# Altium footprint library MOLEX_430450400.PcbLib: 1 footprints
Each footprint in its own frame and in the unit in brackets; x right, y up, seen from the top. Pads: shape width x height; smd on the part's side, far side on the other; paste and mask are expansions set on the pad; w line width, h text height; cw(c..) or ccw(c..) is an arc to the next point about the centre after c.
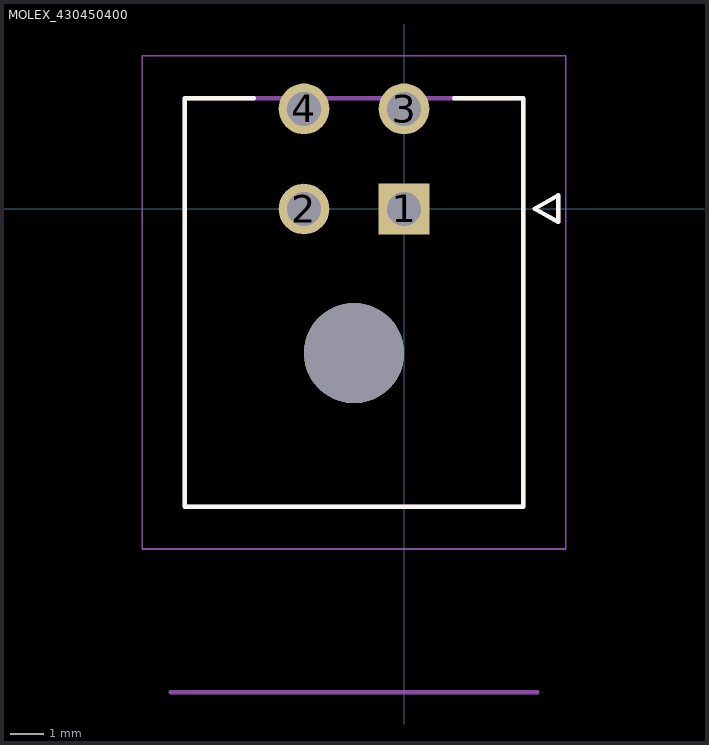
[diagram p0: the footprint, top view; thin cyan lines are the x and y axes]

## MOLEX_430450400 [mm]
height 8.77
pads (5):
  rect 1.52x1.52 / inner round 1.52 / far side rect 1.52x1.52 hole 1.02 mask+0.076: 1(0,0)
  round 1.52 hole 1.02 mask+0.076: 2(-3,0) 3(0,3) 4(-3,3)
  round 3 hole 3 unplated mask+0.076: ""(-1.5,-4.32)
Top Overlay:
  lines w0.127: -4.5,3.32 -6.575,3.32 -6.575,-8.92 3.575,-8.92 3.575,3.32 1.5,3.32 ; 3.92,0.01 4.62,0.41 4.62,-0.39 3.92,0.01
Mechanical 13:
  lines w0.127: -7,-14.48 4,-14.48 ; -6.575,-8.92 3.575,-8.92 3.575,3.32 -6.575,3.32 -6.575,-8.92 ; 3.92,0.01 4.62,0.41 4.62,-0.39 3.92,0.01
  text "PCB EDGE" at 4,-14.48 h0.81
  text "NPTH D3.00 +/- 0.05" at -6.82,5.748 h0.5
  text "PTH D1.02 +/- 0.05" at -6.82,6.748 h0.5
  text "MAX" at -6.32,-13.78 h1.02
Mechanical 15:
  lines w0.05: -7.845,-10.19 4.845,-10.19 4.845,4.59 -7.845,4.59 -7.845,-10.19